# Altium footprint library PcbLib1.PcbLib: 18 footprints (part 1 of 2)
Each footprint in its own frame and in the unit in brackets; x right, y up, seen from the top. Pads: shape width x height; smd on the part's side, far side on the other; paste and mask are expansions set on the pad; w line width, h text height; cw(c..) or ccw(c..) is an arc to the next point about the centre after c.
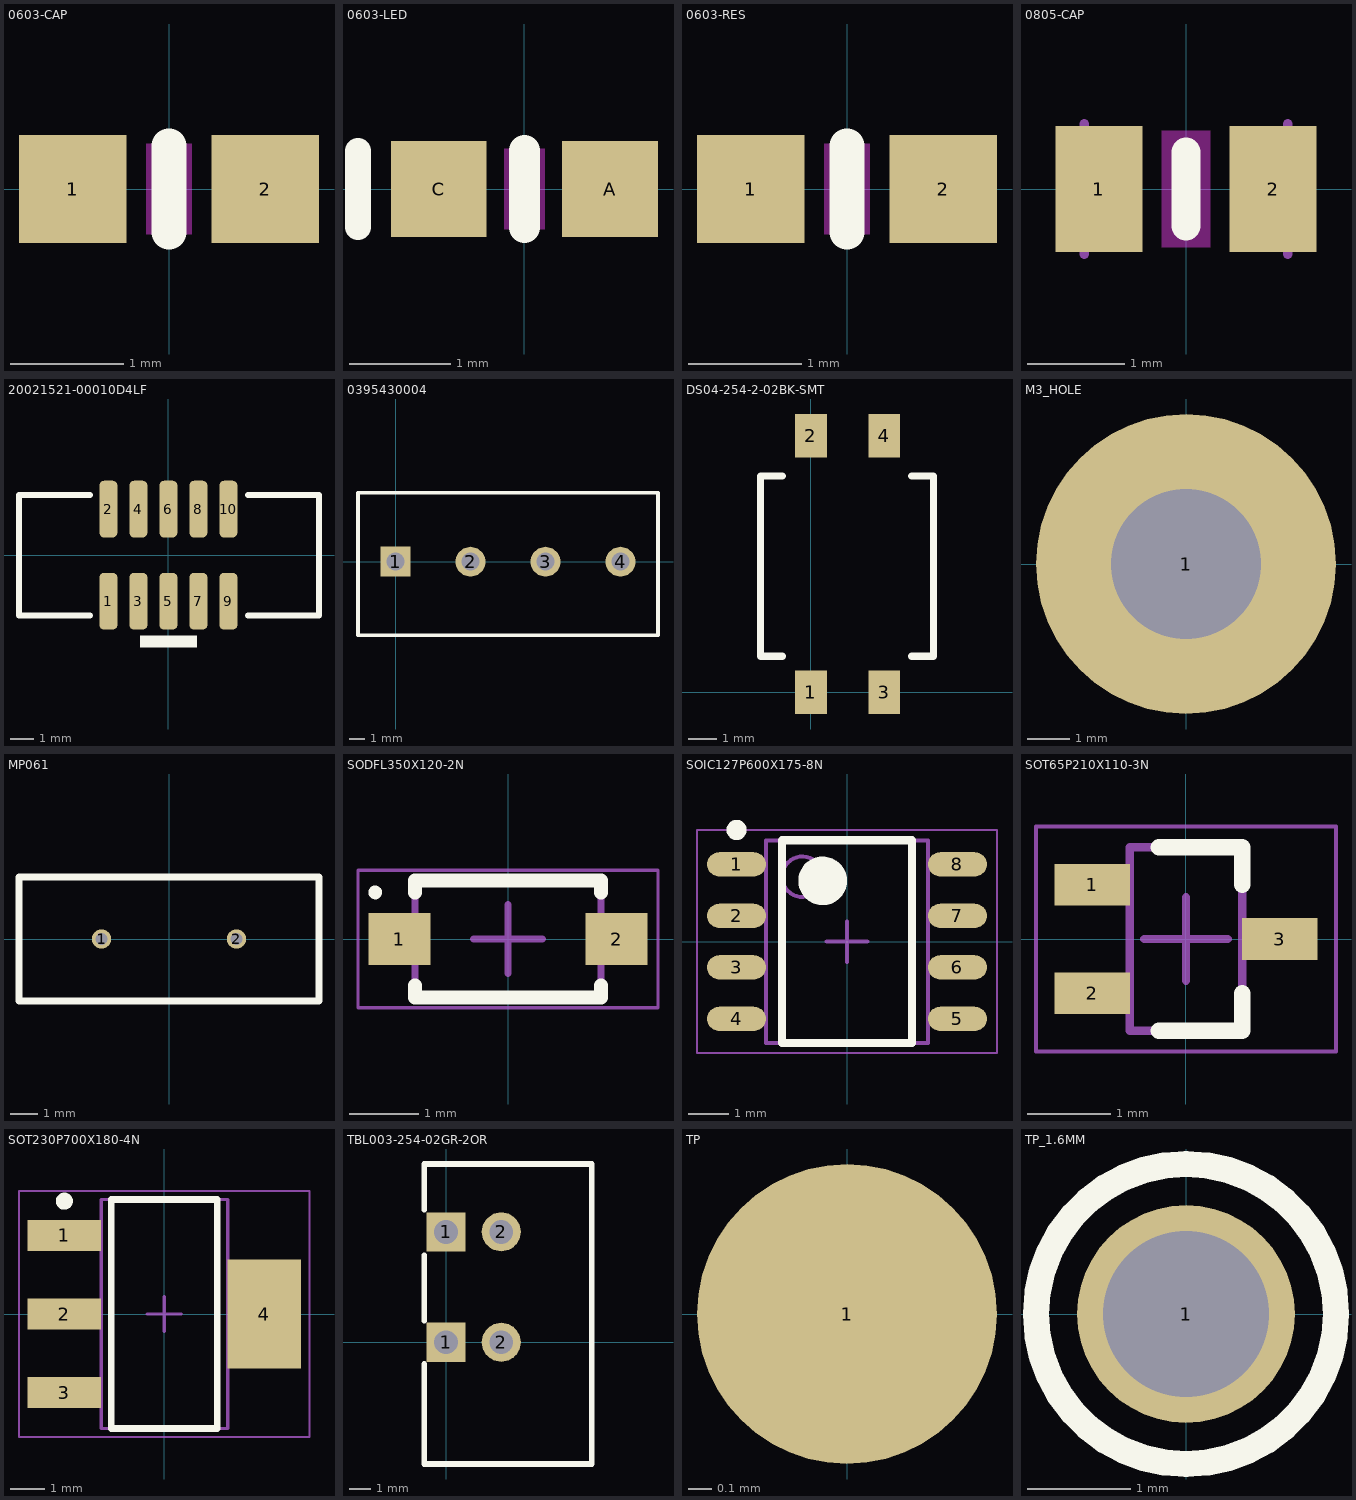
[diagram p0: the footprints below, top view; thin cyan lines are the x and y axes]

## 0603-CAP [mm]
pads (2):
  rect 0.95x0.95 smd: 1(-0.85,0) 2(0.85,0)
Top Layer keep-out:
  region: -0.2,0.4 0.2,0.4 0.2,-0.4 -0.2,-0.4
Top Overlay:
  lines w0.305: 0,-0.381 0,0.381
3D body "0603cap.step": height 0.79, standoff -0.01, extent -0.8,-0.4 0.8,0.4

## 0603-LED [mm]
pads (2):
  rect 0.95x0.95 smd: A(0.85,0) C(-0.85,0)
Top Layer keep-out:
  region: -0.2,0.4 0.2,0.4 0.2,-0.4 -0.2,-0.4
Top Overlay:
  lines w0.254: -1.651,-0.381 -1.651,0 -1.651,0.381
  lines w0.305: 0,-0.381 0,0 0,0.381
3D body "0603led.step": height 0.68, standoff 0, extent -0.833,-0.368 0.817,0.357

## 0603-RES [mm]
pads (2):
  rect 0.95x0.95 smd: 1(-0.85,0) 2(0.85,0)
Top Layer keep-out:
  region: -0.2,0.4 0.2,0.4 0.2,-0.4 -0.2,-0.4
Top Overlay:
  lines w0.305: 0,-0.381 0,0.381
3D body "0603res.step": height 0.44, standoff -0.02, extent -0.8,-0.4 0.8,0.4

## 0805-CAP [mm] "Chip Capacitor, 2-Leads, Body 2.00x1.25mm, IPC Medium Density"
height 0.9
pads (2):
  rect 0.9x1.3 smd: 1(-0.9,0) 2(0.9,0)
Top Layer keep-out:
  region: -0.25,0.6 0.25,0.6 0.25,-0.6 -0.25,-0.6
Top Overlay:
  lines w0.305: 0,-0.381 0,0.381
Mechanical 13:
  lines w0.1: -1.05,-0.675 -1.05,0.675 ; 1.05,-0.675 1.05,0.675
3D body "CAPC2012X09N.step": height 0.9, standoff 0, extent -1.05,-0.675 1.05,0.675

## 20021521-00010D4LF [mm] "CONN HEADER SMD 10POS 1.27MM"
pads (10):
  rrect50% 0.76x2.4 smd: 1(-2.54,-1.95) 2(-2.54,1.95) 3(-1.27,-1.95) 4(-1.27,1.95) 5(0,-1.95) 6(0,1.95) 7(1.27,-1.95) 8(1.27,1.95) 9(2.54,-1.95) 10(2.54,1.95)
Top Overlay:
  rectangle: -1.2,-3.9 1.2,-3.4
  lines w0.254: -3.325,-2.55 -6.325,-2.55 -6.325,2.55 -3.325,2.55 ; 3.375,-2.55 6.375,-2.55 6.375,2.55 3.375,2.55
3D body "20021521-00010XXLFc.stp": height 5.65, standoff 0.05, extent -6.325,-2.75 6.325,2.75

## 0395430004 [mm] "TERM BLK 4POS SIDE ENTRY 5MM PCB"
pads (4):
  rect 2x2 hole 1.2: 1(0,0)
  round 2 hole 1.2: 2(5,0) 3(10,0) 4(15,0)
Top Overlay:
  lines w0.254: -2.5,-4.9 -2.5,4.6 17.5,4.6 17.5,-4.9 -2.5,-4.9
3D body "395430004.stp": height 14.63, standoff -3.43, extent -2.495,-4.9 17.495,4.498

## DS04-254-2-02BK-SMT [mm] "DIP SWITCH, SPST, 2.54 PITCH, FL"
pads (4):
  rect 1.1x1.5 smd: 1(0,0) 2(0,8.9) 3(2.54,0) 4(2.54,8.9)
Top Overlay:
  lines w0.254: -1,1.25 -1.75,1.25 -1.75,7.5 -1,7.5 ; 3.5,1.25 4.25,1.25 4.25,7.5 3.5,7.5
3D body "CUI_DEVICES_DS04-254-2-02BK-SMT.step": height 4.01, standoff 0.01, extent -1.78,-0.55 4.3,9.35

## M3_HOLE [mm]
pads (1):
  round 7 hole 3.5: 1(0,0)

## MP061 [mm] "CRYSTAL 6.1440MHZ 20PF TH"
pads (2):
  round 0.7 hole 0.43: 1(-2.44,0) 2(2.44,0)
Top Overlay:
  lines w0.254: -5.425,-2.25 -5.425,2.25 5.425,2.25 5.425,-2.25 -5.425,-2.25
3D body: height 13.46, standoff 0, extent -5.4,-2.3 5.4,2.2

## SODFL350X120-2N [mm] "SODFL, 2-Leads, Body 1.60x3.50mm, IPC Medium Density"
height 1.2
pads (2):
  rect 0.9x0.75 smd: 1(-1.575,0) 2(1.575,0)
Top Overlay:
  circle w0.1: c-1.925,0.675 r0.05
  lines w0.2: -1.35,-0.675 -1.35,-0.85 1.35,-0.85 1.35,-0.675 ; -1.35,0.675 -1.35,0.85 1.35,0.85 1.35,0.675
Mechanical 13:
  lines w0.1: -1.35,-0.85 -1.35,0.85 1.35,0.85 1.35,-0.85 -1.35,-0.85
Mechanical 15:
  lines w0.05: -2.175,-1 -2.175,1 2.175,1 2.175,-1 -2.175,-1
  lines w0.1: -0.5,0 0.5,0 ; 0,-0.5 0,0.5
3D body "SODFL350X120-2N.step": height 1.2, standoff 0, extent -1.75,-0.85 1.75,0.85

## SOIC127P600X175-8N [mm] "SOIC, 8-Leads, Body 4.90x3.90mm, Pitch 1.27mm, IPC Medium Density"
height 1.75
pads (8):
  oval 1.45x0.6 smd: 1(-2.725,1.905) 2(-2.725,0.635) 3(-2.725,-0.635) 4(-2.725,-1.905) 5(2.725,-1.905) 6(2.725,-0.635) 7(2.725,0.635) 8(2.725,1.905)
Top Overlay:
  circle w0.6: c-0.6,1.5 r0.3
  circle w0.25: c-2.725,2.755 r0.125
  lines w0.2: -1.6,-2.5 1.6,-2.5 1.6,2.5 -1.6,2.5 -1.6,-2.5
Mechanical 13:
  circle w0.1: c-1.1,1.6 r0.5
  lines w0.1: -2,-2.5 2,-2.5 2,2.5 -2,2.5 -2,-2.5
Mechanical 15:
  lines w0.05: -3.7,-2.75 3.7,-2.75 3.7,2.75 -3.7,2.75 -3.7,-2.75
  lines w0.1: -0.5,0 0.5,0 ; 0,-0.5 0,0.5
3D body "SOIC127P600X175-8N.step": height 1.75, standoff 0, extent -3,-2.5 3,2.5

## SOT65P210X110-3N [mm] "SOT23, 3-Leads, Body 2.00x2.10mm, Pitch 0.65mm, IPC Medium Density"
height 1.1
pads (3):
  rect 0.9x0.5 smd: 1(-1.125,0.65) 2(-1.125,-0.65) 3(1.125,0)
Top Overlay:
  lines w0.2: -0.325,-1.1 0.675,-1.1 0.675,-0.65 ; -0.325,1.1 0.675,1.1 0.675,0.65
Mechanical 13:
  lines w0.1: -0.675,-1.1 -0.675,1.1 0.675,1.1 0.675,-1.1 -0.675,-1.1
Mechanical 15:
  lines w0.05: -1.8,-1.35 -1.8,1.35 1.8,1.35 1.8,-1.35 -1.8,-1.35
  lines w0.1: -0.5,0 0.5,0 ; 0,-0.5 0,0.5
3D body "SOT65P210X110-3N.step": height 1.1, standoff 0, extent -1.3,-1.1 1.3,1.1

## SOT230P700X180-4N [mm] "SOT223, 4-Leads, Body 6.50x7.00mm (avg), Pitch 2.30mm, IPC Medium Density"
height 1.8
pads (4):
  rect 2.15x0.9 smd: 1(-2.925,2.3) 2(-2.925,0) 3(-2.925,-2.3)
  rect 2.15x3.2 smd: 4(2.925,0)
Top Overlay:
  circle w0.25: c-2.925,3.3 r0.125
  lines w0.2: -1.55,-3.35 -1.55,3.35 1.55,3.35 1.55,-3.35 -1.55,-3.35
Mechanical 13:
  lines w0.1: -1.85,-3.35 -1.85,3.35 1.85,3.35 1.85,-3.35 -1.85,-3.35
Mechanical 15:
  lines w0.05: -4.25,-3.6 -4.25,3.6 4.25,3.6 4.25,-3.6 -4.25,-3.6
  lines w0.1: -0.5,0 0.5,0 ; 0,-0.5 0,0.5
3D body "SOT230P700X180-4N.step": height 1.8, standoff 0, extent -3.5,-3.35 3.5,3.35

## TBL003-254-02GR-2OR [mm] "TERMINAL BLOCK, SCREWLESS, 2.54,"
pads (4):
  rect 1.8x1.8 hole 1.1: 1(0,0) 1(0,5.08)
  round 1.8 hole 1.1: 2(2.54,0) 2(2.54,5.08)
Top Overlay:
  lines w0.254: -1,-1 -1,-5.6 6.7,-5.6 6.7,8.2 -1,8.2 -1,6.1 ; -1,1 -1,4
3D body "CUI_DEVICES_TBL003-254-02GR-2OR.step": height 12.75, standoff -3.5, extent -0.98,-5.7 6.7,8.1

## TP [mm]
pads (1):
  round 1.27 smd: 1(0,0)

## TP_1.6MM [mm]
pads (1):
  round 2.1 hole 1.6: 1(0,0)
Top Overlay:
  circle w0.254: c0,0 r1.448
3D body "TestPin 1.6mm.SLDPRT": height 5, standoff -4.06, extent -1.522,-1.513 1.522,1.525